# Altium footprint library INDUSTRIALFIBEROPTICS_IF-E99B.PcbLib: 1 footprints
Each footprint in its own frame and in the unit in brackets; x right, y up, seen from the top. Pads: shape width x height; smd on the part's side, far side on the other; paste and mask are expansions set on the pad; w line width, h text height; cw(c..) or ccw(c..) is an arc to the next point about the centre after c.
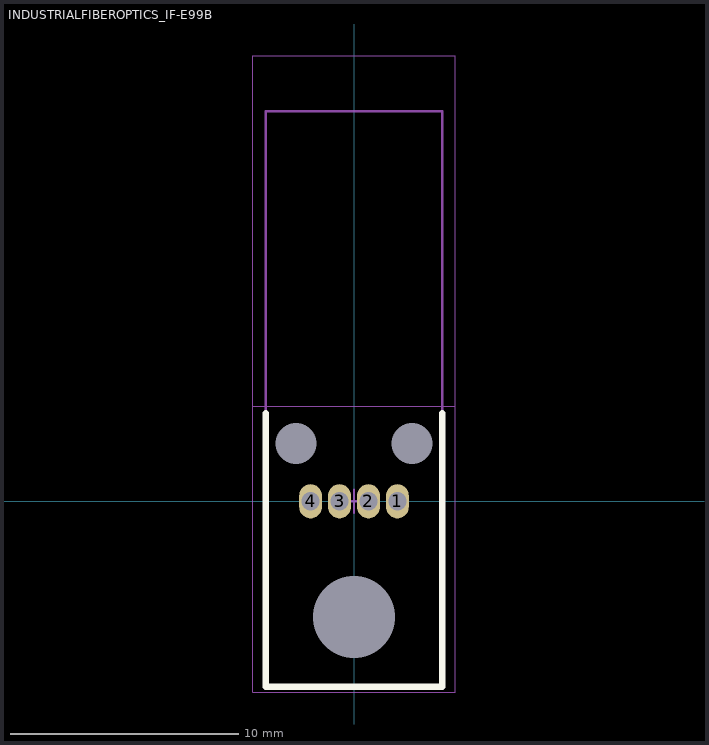
[diagram p0: the footprint, top view; thin cyan lines are the x and y axes]

## INDUSTRIALFIBEROPTICS_IF-E99B [mm]
height 10.41
pads (7):
  oval 1x1.5 hole 0.8 mask+0: 1(1.905,0) 2(0.635,0) 3(-0.635,0) 4(-1.905,0)
  round 0 hole 1.8 unplated mask+0: ""(-2.54,2.54) ""(2.54,2.54)
  round 0 hole 3.6 unplated mask+0: ""(0,-5.08)
Top Overlay:
  lines w0.3: -3.875,3.86 -3.875,-8.14 3.875,-8.14 3.875,3.86
Mechanical 13:
  lines w0.1: -3.875,-8.14 3.875,-8.14 3.875,17.13 -3.875,17.13 -3.875,-8.14
Mechanical 15:
  lines w0.05: -4.445,4.17 4.445,4.17 ; -4.445,-8.382 -4.445,19.558 4.445,19.558 4.445,-8.382 -4.445,-8.382
  lines w0.1: -0.5,0 0.5,0 ; 0,-0.5 0,0.5
  text "PCB EDGE" at -1.7,4.22 h0.5
3D body "INDUSTRIALFIBEROPTICS_IF-E99B.stp": height 11.3, standoff -9.45, extent -4.318,-8.306 4.318,19.437